# Altium footprint library BluePill.PcbLib: 1 footprints
Each footprint in its own frame and in the unit in brackets; x right, y up, seen from the top. Pads: shape width x height; smd on the part's side, far side on the other; paste and mask are expansions set on the pad; w line width, h text height; cw(c..) or ccw(c..) is an arc to the next point about the centre after c.
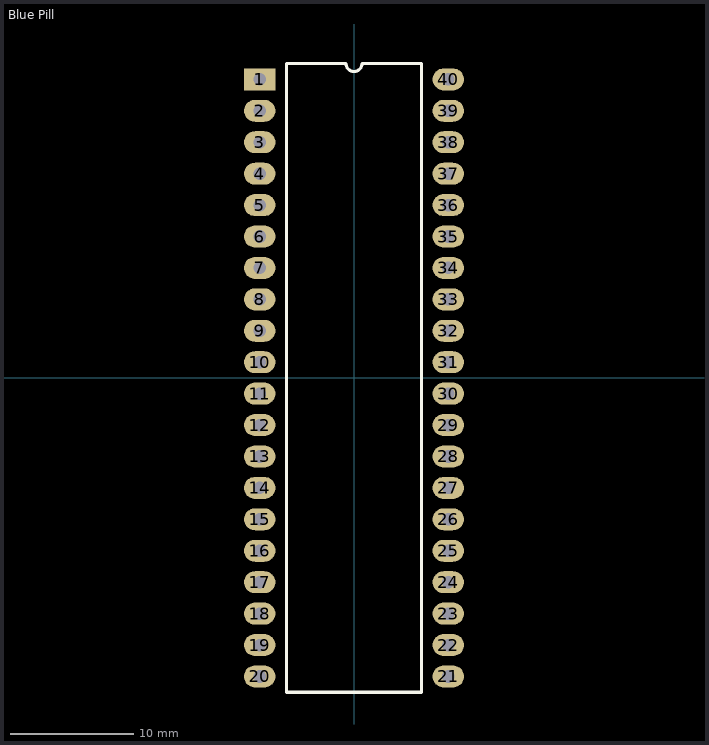
[diagram p0: the footprint, top view; thin cyan lines are the x and y axes]

## Blue Pill [mil]
pads (40):
  rect 100x70 hole 40: 1(-300,950)
  oval 100x70 hole 40: 2(-300,850) 3(-300,750) 4(-300,650) 5(-300,550) 6(-300,450) 7(-300,350) 8(-300,250) 9(-300,150) 10(-300,50) 11(-300,-50) 12(-300,-150) 13(-300,-250) 14(-300,-350) 15(-300,-450) 16(-300,-550) 17(-300,-650) 18(-300,-750) 19(-300,-850) 20(-300,-950) 21(300,-950) 22(300,-850) 23(300,-750) 24(300,-650) 25(300,-550) 26(300,-450) 27(300,-350) 28(300,-250) 29(300,-150) 30(300,-50) 31(300,50) 32(300,150) 33(300,250) 34(300,350) 35(300,450) 36(300,550) 37(300,650) 38(300,750) 39(300,850) 40(300,950)
Top Overlay:
  lines w10: -215,-1000 215,-1000 215,1000 25,1000 cw(c0,1000) -25,1000 -215,1000 -215,-1000
3D body: height 90, standoff 70, extent -187.5,-195 197.51,190
3D body: height 180, standoff 70, extent -150,750 150,1045
3D body: height 75, standoff 70, extent 225,1001.02 374,1011.02
3D body: height 75, standoff 70, extent 226,-1011.02 375,-1001.02
3D body: height 75, standoff 70, extent -374,-1011.02 -225,-1001.02
3D body: height 75, standoff 70, extent -375,1001.02 -226,1011.02
3D body: height 75, standoff 70, extent -230,-1010 -220,1005
3D body: height 75, standoff 70, extent 370,-1010 380,1005
3D body: height 75, standoff 70, extent 220,-1010 230,1005
3D body: height 75, standoff 70, extent -380,-1010 -370,1005
3D body: height 70, standoff 50, extent -455,-1045 455,1045
3D body: height 100, standoff -50, extent 281.08,931.02 319,968.99
3D body: height 100, standoff -50, extent 281.08,831.02 319,868.99
3D body: height 100, standoff -50, extent 281.08,731.02 319,768.99
3D body: height 100, standoff -50, extent 281.08,631.02 319,668.99
3D body: height 100, standoff -50, extent 281.08,531.02 319,568.99
3D body: height 100, standoff -50, extent 281.08,431.02 319,468.99
3D body: height 100, standoff -50, extent 281.08,331.02 319,368.99
3D body: height 100, standoff -50, extent 281.08,231.02 319,268.99
3D body: height 100, standoff -50, extent 281.08,131.02 319,168.99
3D body: height 100, standoff -50, extent 281.08,31.02 319,68.99
3D body: height 100, standoff -50, extent 281.08,-68.98 319,-31.01
3D body: height 100, standoff -50, extent 281.08,-168.98 319,-131.01
3D body: height 100, standoff -50, extent 281.08,-268.98 319,-231.01
3D body: height 100, standoff -50, extent 281.08,-368.98 319,-331.01
3D body: height 100, standoff -50, extent 281.08,-468.98 319,-431.01
3D body: height 100, standoff -50, extent 281.08,-568.98 319,-531.01
3D body: height 100, standoff -50, extent 281.08,-668.98 319,-631.01
3D body: height 100, standoff -50, extent 281.08,-768.98 319,-731.01
3D body: height 100, standoff -50, extent 281.08,-868.98 319,-831.01
3D body: height 100, standoff -50, extent 281.08,-968.98 319,-931.01
3D body: height 100, standoff -50, extent -318.92,-968.98 -281,-931.01
3D body: height 100, standoff -50, extent -318.92,-868.98 -281,-831.01
3D body: height 100, standoff -50, extent -318.92,-768.98 -281,-731.01
3D body: height 100, standoff -50, extent -318.92,-668.98 -281,-631.01
3D body: height 100, standoff -50, extent -318.92,-568.98 -281,-531.01
3D body: height 100, standoff -50, extent -318.92,-468.98 -281,-431.01
3D body: height 100, standoff -50, extent -318.92,-368.98 -281,-331.01
3D body: height 100, standoff -50, extent -318.92,-268.98 -281,-231.01
3D body: height 100, standoff -50, extent -318.92,-168.98 -281,-131.01
3D body: height 100, standoff -50, extent -318.92,-68.98 -281,-31.01
3D body: height 100, standoff -50, extent -318.92,31.02 -281,68.99
3D body: height 100, standoff -50, extent -318.92,131.02 -281,168.99
3D body: height 100, standoff -50, extent -318.92,231.02 -281,268.99
3D body: height 100, standoff -50, extent -318.92,331.02 -281,368.99
3D body: height 100, standoff -50, extent -318.92,431.02 -281,468.99
3D body: height 100, standoff -50, extent -318.92,531.02 -281,568.99
3D body: height 100, standoff -50, extent -318.92,631.02 -281,668.99
3D body: height 100, standoff -50, extent -318.92,731.02 -281,768.99
3D body: height 100, standoff -50, extent -318.92,831.02 -281,868.99
3D body: height 100, standoff -50, extent -318.92,931.02 -281,968.99